# Altium schematic symbol library TPS3805.SchLib: 1 symbol
Pins are listed as number, name and electrical type; pins without a type are passive.

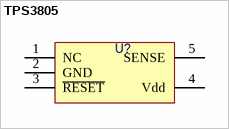
[diagram p0: symbol TPS3805]

## TPS3805
designator U?
pins: 1 NC, 2 GND, 3 ~{RESET}, 4 Vdd, 5 SENSE
1 alternate drawing of the same symbol